# Altium schematic symbol library M1-Test-Board.SCHLIB: 52 symbols (part 1 of 2)
Pins are listed as number, name and electrical type; pins without a type are passive.

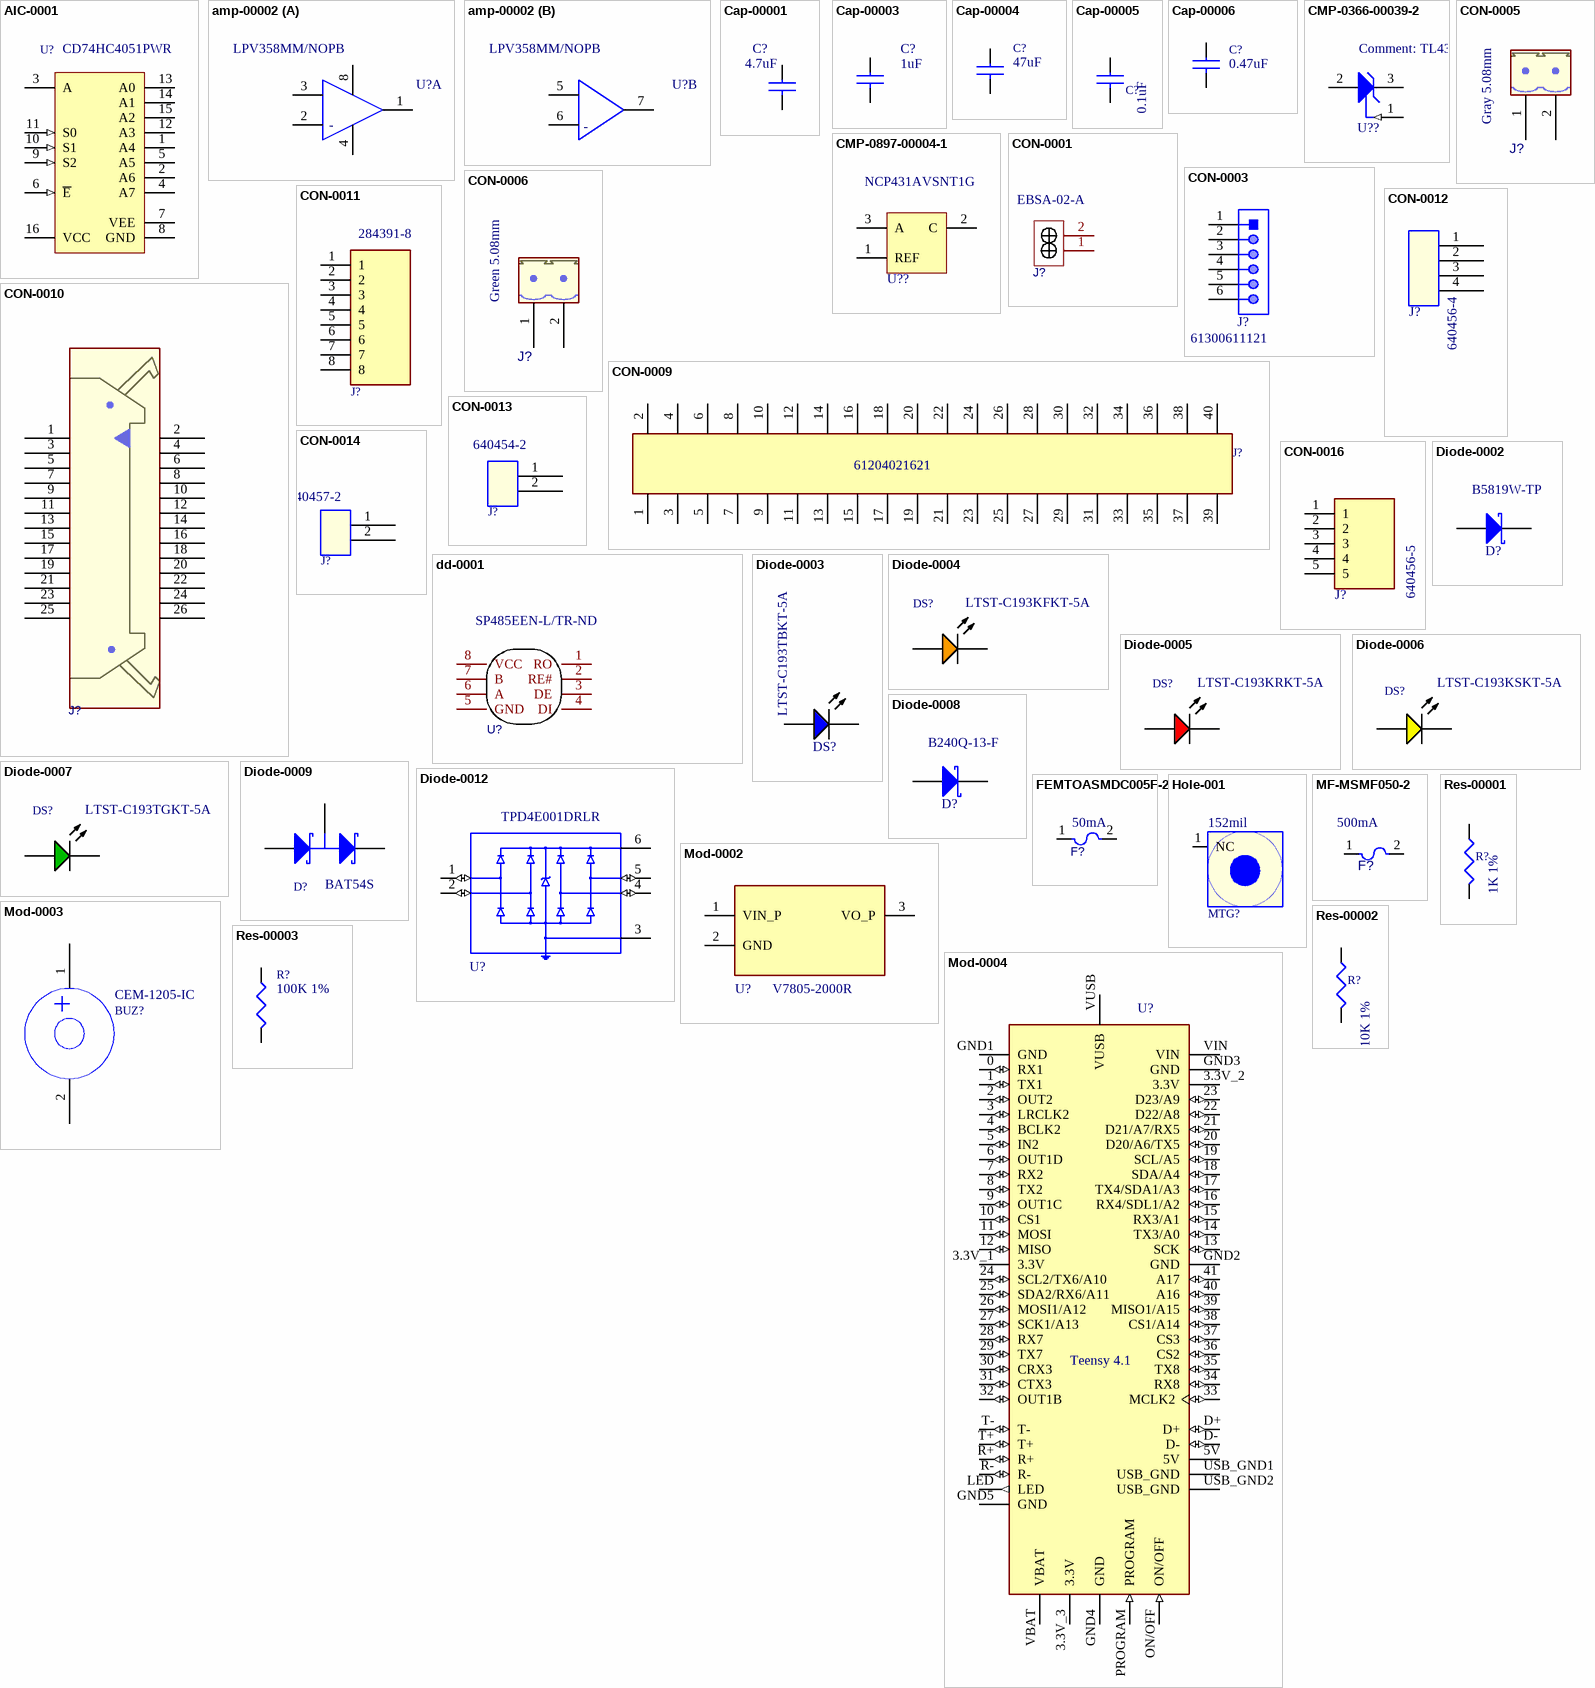
[diagram p0: symbols AIC-0001 to Res-00003]

## AIC-0001
designator U?, comment CD74HC4051PWR
5-V, 8: 1, 1-channel analog mutliplexer 16-TS; Manufacturer: Texas Instruments; Output Type: CMOS; VCC(Max)(V): 6; Ron(Typ)(Ohms): 45; Rating: Catalog; VCC(Min)(V): 2; Ron(Max)(Ohms): 130; Configuration: 1 X 1：8 MUX; Crosstalk: Yes; Bandwidth(Max)(MHz): 180; Bandwidth: 180MHz; Propagation Delay: 60ns; Number of Outputs: 1; Max Supply Voltage: 6V; Min Supply Voltage: 2V; Number of Inputs: 8; Min Dual Supply Voltage: 1V; Max Dual Supply Voltage: 5V; Dual Supply Voltage: 3V; Logic Function: Multiplexer,Demultiplexer; On-State Resistance: 130R; Turn-On Delay Time: 225ns; Supply Type: Single,Dual; Nominal Supply Current: 16uA; Polarity: Non-Inverting; Low Level Output Current: 25mA; PackageVersion: http://www.ti.com/lit/ml/mpds178g/mpds178g.pdf; Generic Part Number: CD74HC4051; PackageReference: D0016A; Operating Temperature Range(C): -55 to 125; DatasheetVersion: SCHS122J; Code_JEDEC: MS-012 variation AC; Manufacturer Part Number: CD74HC4051PWR; Part Name: AIC-0001; LCSC Part Number: C352826; Supplier 1: Newark; Supplier Part Number 1: 29AH3620; RoHS: Yes; Category: Decoders and Multiplexers; Stock 1: 12645; Pricing 1: 1=0.33420, 10=0.26780, 30=0.23940, 100=0.2039; Mount: Surface Mount; Case/Package: TSSOP; Number of Pins: 16; Weight: 0.002183oz; Contact Plating: Gold; Min Operating Temperature: -55°C; Max Operating Temperature: 125°C; Package Quantity: 1; Packaging: Tape and Reel; Number of Channels: 1; Turn-Off Delay Time: 225ns; Number of Bits: 8; Series: 74HC; Number of Circuits: 1; High Level Output Current: 25mA; Number of Switches: 1; Max Output Current: 25mA; Termination: SMD/SMT; Supply Current: 16uA; Length: 5mm; Width: 4.4mm; Height: 1.15mm; Radiation Hardening: No; Lead Free: Lead Free; RoHS Compliant: Yes; REACH SVHC: No SVHC; ComponentLink1URL: https://datasheet.ciiva.com/15127/getdatashee; ComponentLink1Description: https://datasheet.ciiva.com/15127/getdatashee; ComponentLink2URL: https://datasheet.ciiva.com/27092/1326571-270; ComponentLink2Description: https://datasheet.ciiva.com/27092/1326571-270; ComponentLink3URL: https://datasheet.ciiva.com/1514/1789854-1514; ComponentLink3Description: https://datasheet.ciiva.com/1514/1789854-1514; ComponentLink4URL: https://datasheet.ciiva.com/1171/1633734-1171; ComponentLink4Description: https://datasheet.ciiva.com/1171/1633734-1171; ComponentLink5URL: https://datasheet.ciiva.com/1171/1633734-1171; ComponentLink5Description: https://datasheet.ciiva.com/1171/1633734-1171; ComponentLink6URL: https://datasheet.ciiva.com/2978/cd74hct4053-; ComponentLink6Description: https://datasheet.ciiva.com/2978/cd74hct4053-; ComponentLink7URL: https://datasheet.ciiva.com/46391/1840262-463; ComponentLink7Description: https://datasheet.ciiva.com/46391/1840262-463
footprint D0016A_N (SOIC, 16-Leads, Body 10x4mm, Pitch 1.27mm, IPC Medium Density)
footprint D0016A_L (SOIC, 16-Leads, Body 10x4mm, Pitch 1.27mm, IPC High Density)
footprint D0016A_M (SOIC, 16-Leads, Body 10x4mm, Pitch 1.27mm, IPC Low Density)
footprint 16-TSSOP-4.4mm
pins: 1 A4, 2 A6, 3 A, 4 A7, 5 A5, 6 ~{E} (in), 7 VEE (power), 8 GND (power), 9 S2 (in), 10 S1 (in), 11 S0 (in), 12 A3, 13 A0, 14 A1, 15 A2, 16 VCC (power)

## amp-00002
designator U?, comment LPV358MM/NOPB
Op Amp Dual Micropower Amplifier R-R O/P 5V 8; Manufacturer: TI National Semiconductor; Manufacturer: Texas Instruments; Manufacturer Part Number: LM358DR; Part Name: amp-00002; Output Current: 2mA; Min Dual Supply Voltage: 1.5V; Input Offset Voltage (Vos): 1.5mV; Power Supply Rejection Ratio (PSRR): 50dB; Unity Gain Bandwidth Product: 152kHz; Number of Channels: 2; Min Supply Voltage: 2.7V; Max Dual Supply Voltage: 16V; Output Current per Channel: 16mA; Dual Supply Voltage: 9V; Nominal Supply Current: 15uA; Slew Rate: 0.1V/µs; Input Bias Current: 2nA; Voltage Gain: 100dB; Operating Supply Voltage: 3V; Amplifier Type: GENERAL PURPOSE; Max Frequency: 1kHz; REACH SVHC: No SVHC; Package Quantity: 1000; Width: 3.1mm; Max Operating Temperature: 85°C; Min Operating Temperature: -40°C; Mount: Surface Mount; Length: 3.1mm; Radiation Hardening: No; Case/Package: VSSOP; Lead Free: Lead Free; Number of Elements: 2; Packaging: Tape and Reel; Number of Circuits: 2; Max Supply Voltage: 5V; Bandwidth: 152kHz; Gain Bandwidth Product: 152kHz; Number of Pins: 8; Number of Amplifiers: 2; Height: 0.95mm; Common Mode Rejection Ratio: 50dB; Contact Plating: Tin; Operating Supply Current: 15uA; Manufacturer Part Number: LPV358MM/NOPB; LCSC Part Number: C133971; Supplier 1: Digi-Key; Supplier Part Number 1: LPV358MM/NOPBCT-ND; RoHS: Yes; Category: Amplifiers - Op Amps, Buffer, Instrumentation; Stock 1: 8722; Pricing 1: 1=1.43000, 10=1.27600, 25=1.21080, 100=0.9947; Technology: BICMOS; RoHS Compliant: Yes; ComponentLink1URL: https://datasheet.ciiva.com/6627/lpv321-n-662; ComponentLink1Description: https://datasheet.ciiva.com/6627/lpv321-n-662; ComponentLink2URL: https://datasheet.ciiva.com/6627/lpv321-n-662; ComponentLink2Description: https://datasheet.ciiva.com/6627/lpv321-n-662; ComponentLink3URL: https://datasheet.ciiva.com/6627/lpv321-n-662; ComponentLink3Description: https://datasheet.ciiva.com/6627/lpv321-n-662
footprint FP-D0008A-MFG
footprint FP-D0008A-IPC_A
footprint FP-D0008A-IPC_B
footprint FP-D0008A-IPC_C
footprint MUA08A
part A pins: 1 1OUT, 2 IN1-, 3 IN1+, 4 V- (power), 8 V+ (power)
part B pins: 5 IN2+, 6 IN2-, 7 2OUT
part A text: -
part B text: -

## Cap-00001
designator C?, comment 4.7uF
CAP CER 4.7UF 16V X5R 0603; Part Name: Cap-00001; Manufacturer: Samsung; Manufacturer Part Number: CL10A475KO8NNNC; Material: Ceramic; Tolerance: 10%; Supplier 1: Digi-Key; Supplier Part Number 1: 1276-1784-1-ND; RoHS: Yes; Category: Ceramic Capacitors; Stock 1: 1593998; Pricing 1: 1=0.13000, 10=0.09100, 50=0.05180, 100=0.0429; Mount: Surface Mount; Case/Package: 0603; Case Code (Metric): 1608; Case Code (Imperial): 0603; Contact Plating: Tin; Min Operating Temperature: -55°C; Max Operating Temperature: 85°C; Packaging: Tape and Reel; Package Quantity: 1; Capacitance: 4.7uF; Voltage Rating: 16V; Dielectric: X5R; Voltage: 16V; Series: CL; Construction: Flat; Length: 1.6mm; Width: 0.031inch; Height: 0.8mm; Thickness: 0.035inch; Depth: 0.8mm; Radiation Hardening: No; RoHS Compliant: Yes; ComponentLink1URL: https://datasheet.ciiva.com/25795/cl10a475ko8; ComponentLink1Description: https://datasheet.ciiva.com/25795/cl10a475ko8; ComponentLink2URL: https://datasheet.ciiva.com/26838/getdatashee; ComponentLink2Description: https://datasheet.ciiva.com/26838/getdatashee; ComponentLink3URL: https://datasheet.ciiva.com/29198/457663-da-0; ComponentLink3Description: https://datasheet.ciiva.com/29198/457663-da-0; LCSC Part Number: C19666; Dielectric Material: Ceramic; Number of Pins: 2
footprint CC0603IPC
footprint C0603
pins: 1, 2

## Cap-00003
designator C?, comment 1uF
CAP CER 1UF 10V Y5V 0402; Part Name: Cap-00003; Manufacturer: KEMET; Manufacturer Part Number: C0402C105Z8VAC7867; Tolerance: 80%; Dielectric Material: Ceramic; Supplier 1: Digi-Key; Supplier Part Number 1: 399-14873-1-ND; RoHS: Yes; Category: Ceramic Capacitors; Stock 1: 9702; Pricing 1: 1=0.28000, 10=0.18900, 50=0.12580, 100=0.1070; Mount: Surface Mount; Case/Package: 0402; Case Code (Metric): 1005; Case Code (Imperial): 0402; Min Operating Temperature: -30°C; Max Operating Temperature: 85°C; Packaging: Cut Tape; Capacitance: 1uF; Voltage Rating: 10V; ComponentLink1URL: https://api.kemet.com/component-edge/download; ComponentLink1Description: https://api.kemet.com/component-edge/download; LCSC Part Number: C52923; Number of Pins: 2
footprint C0402
pins: 1, 2

## Cap-00004
designator C?, comment 47uF
CAP CER 47UF 16V X5R 1210; Part Name: Cap-00004; Manufacturer: Murata; Manufacturer Part Number: GRM32ER61C476ME15L; Tolerance: 20%; Dielectric Material: Ceramic; Supplier 1: Digi-Key; Supplier Part Number 1: 490-3888-1-ND; RoHS: Yes; Category: Ceramic Capacitors; Stock 1: 238447; Pricing 1: 1=0.73000, 10=0.53900, 50=0.43120, 100=0.3697; Mount: Surface Mount; Case/Package: 1210; Case Code (Metric): 3225; Case Code (Imperial): 1210; Min Operating Temperature: -55°C; Max Operating Temperature: 85°C; Packaging: Tape and Reel; Package Quantity: 1000; Capacitance: 47uF; Voltage Rating: 16V; Dielectric: X5R; Voltage: 16V; Series: GRM; Length: 3.2mm; Width: 0.098inch; Height: 2.5mm; Thickness: 0.106inch; Depth: 2.5mm; RoHS Compliant: Yes; ComponentLink1URL: https://datasheet.ciiva.com/141/product-14197; ComponentLink1Description: https://datasheet.ciiva.com/141/product-14197; ComponentLink2URL: https://datasheet.ciiva.com/14116/grm32er61c4; ComponentLink2Description: https://datasheet.ciiva.com/14116/grm32er61c4; ComponentLink3URL: https://datasheet.ciiva.com/7719/415303-77191; ComponentLink3Description: https://datasheet.ciiva.com/7719/415303-77191; LCSC Part Number: C77101; Number of Pins: 2; Termination: SMD/SMT; REACH SVHC: No SVHC; Lead Free: Lead Free; ComponentLink4URL: https://datasheet.ciiva.com/141/partnumbering; ComponentLink4Description: https://datasheet.ciiva.com/141/partnumbering; ComponentLink5URL: https://datasheet.ciiva.com/141/partnumbering; ComponentLink5Description: https://datasheet.ciiva.com/141/partnumbering; ComponentLink6URL: https://datasheet.ciiva.com/16343/c02e-163436; ComponentLink6Description: https://datasheet.ciiva.com/16343/c02e-163436; Voltage Rating (DC): 16V
footprint C1210
pins: 1, 2

## Cap-00005
designator C?, comment 0.1uF
Cap Ceramic 0.1uF 50V X7R 10% Pad SMD 0402 125C Automotive T/R; Part Name: Cap-00005; Manufacturer: Murata; Manufacturer Part Number: GRT155R71H104KE01D; Supplier 1: Digi-Key; Supplier Part Number 1: 490-GRT155R71H104KE01DCT-ND; RoHS: Yes; Category: Ceramic Capacitors; Stock 1: 179948; Pricing 1: 1=0.10000, 10=0.04700, 50=0.02580, 100=0.0211; Mount: Surface Mount; Case/Package: 0402; Case Code (Metric): 1005; Case Code (Imperial): 0402; RoHS Compliant: Yes; LCSC Part Number: C307331; Number of Pins: 2; Dielectric Material: Ceramic; Voltage Rating (DC): 50V
footprint C0402
pins: 1, 2

## Cap-00006
designator C?, comment 0.47uF
CAP CER 0.47UF 16V Y5V 0402; Part Name: Cap-00006; Manufacturer: Yageo; Manufacturer Part Number: CC0402ZRY5V7BB474; Tolerance: 80%; Capacitance: 470nF; Dielectric Material: Ceramic; Supplier 1: Digi-Key; Supplier Part Number 1: 311-1735-1-ND; RoHS: Yes; Category: Ceramic Capacitors; Stock 1: 154263; Pricing 1: 1=0.10000, 10=0.07700, 50=0.04180, 100=0.0342; Mount: Surface Mount; Case/Package: 0402; Case Code (Metric): 1005; Case Code (Imperial): 0402; Min Operating Temperature: -30°C; Max Operating Temperature: 85°C; Packaging: Tape and Reel; Voltage Rating: 16V; Dielectric: Y5V; Series: CC; Length: 1mm; Width: 0.02inch; Thickness: 0.022inch; Depth: 0.5mm; Radiation Hardening: No; RoHS Compliant: Yes; ComponentLink1URL: https://datasheet.ciiva.com/26862/getdatashee; ComponentLink1Description: https://datasheet.ciiva.com/26862/getdatashee; LCSC Part Number: C527993; Termination: SMD/SMT; Lead Free: Lead Free; Halogen Free: Halogen Free; Voltage Rating (DC): 16V
footprint C0402
pins: 1, 2

## CMP-0366-00039-2
designator U??, comment TL431ACLP
Adjustable Precision Shunt Regulator, 34 ppm / degC, 100 mA, 0 to 70 degC, 3-pin TO-92 (LP), Pb-Free (RoHS); Manufacturer: Texas Instruments; VO Adj(Max)(V): 36; Initial Accuracy @ 25/deg C(%): 1; SubFamily: Shunt Voltage Reference; Temp Coeff(Typ)(ppm/ degree C): 34; VO Adj(Min)(V): 2.495; Rating: Catalog; Min Iz for Regulation(uA): 600; Temp Coeff(Max)(ppm/ degree C): 92; Iout/Iz(Max)(mA): 100; Code_JEDEC: TO-226; PackageReference: LP0003A; ComponentLink1Description: Manufacturer URL; ComponentLink2URL: http://www.ti.com/general/docs/lit/getliterature.tsp?genericPartNumber=TL431A&fileType=pdf; DatasheetVersion: SLVS543M; ComponentLink3Description: Package Specification; Mounting Technology: Through Hole; PackageVersion: 4040001-2/C; ComponentLink2Description: Datasheet; PartNumber: TL431ACLP; ComponentLink3URL: http://www.ti.com/litv/pdf/msot002a; PackageDescription: Plastic Cylindrical Package, Formed Lead Option (TO-92); ComponentLink1URL: http://www.ti.com/; Eco-Plan: Pb-Free (RoHS); Manufacturer Part Number: TL431ACLP
footprint LP0003A (TO, Flat Index; 3 In-Line, Formed Axial Leads; Body Dia. 4.8mm; Leads 0.56 x 0.41 mm (max))
pins: 1 REF (in), 2 ANODE, 3 CATHODE

## CMP-0897-00004-1
designator U??, comment NCP431AVSNT1G
Programmable Precision Reference, Low Cathode Current, Programmable, Shunt Regulator, 2.5 to 36 V, 0.04 to 100 mA, -40 to 125 degC, 3-Pin SOT23 (318), Pb-free, Tape and Reel; Manufacturer: ON Semiconductor; Tolerance: 1%; V(BR) Typ: 2.5 V; Tyep: Adjustable; VF Max: 36 V; ComponentLink3Description: Package Specification; PackageVersion: Rev. 08AP; Operating Current Range: 0.04 to 100 mA; Packing: Tape and Reel; ComponentLink2Description: Datasheet; Mounting Technology: Surface Mount; PackageDescription: SOT23, 3-Leads, Body 2.92 x 1.3 mm, Pitch 0.95 mm; ComponentLink1URL: http://www.onsemi.com/; PartNumber: NCP431AVSNT1G; ComponentLink1Description: Manufacturer URL; Operating Temperature Range: -40 to 125 degC; DatasheetVersion: Rev. 6; PackageReference: SOT-23-318AP-08; ComponentLink3URL: http://www.onsemi.com/pub_link/Collateral/318-08.PDF; ComponentLink2URL: http://www.onsemi.com/pub_link/Collateral/NCP431-D.PDF; Manufacturer Part Number: NCP431AVSNT1G
footprint ONSC-SOT-23-3-318AP-08_V (SOT23, 3-Leads, Body 2.92x1.3mm, Pitch 0.95mm)
pins: 1 REF, 2 C, 3 A

## CON-0001
designator J?, comment EBSA-02-A
Conn Header Right angle 3.5 pitch 2P; Manufacturer: Adam Equipment; Connector Type: Male Pin; Number of Positions: 6; Pitch: 0.1inch; Part Name: CON-0001; Supplier 1: Digi-Key; Supplier Part Number 1: 2057-EBSA-02-A-ND; Manufacturer Part Number: EBSA-02-A; RoHS: Yes; Stock 1: 2090; Pricing 1: 1=0.58000, 10=0.31600, 25=0.23600, 50=0.21040; LCSC Part Number: C409115; Category: Connectors; Color: Black; ComponentLink1Description: https://datasheet.ciiva.com/741/xrxczzzsxxn-r; ComponentLink1URL: https://datasheet.ciiva.com/741/xrxczzzsxxn-r; Contact Mating Length: 0.318inch; Contact Plating: Gold; Contact Type: Male Pin; Mount: Through Hole; Number of Rows: 1; Package Quantity: 1; Packaging: Bulk; Pricing 2: 1=0.21000, 10=0.19800, 25=0.16920, 50=0.14820; RoHS Compliant: Yes; Series: -; Stock 2: 1241; Supplier 2: Digi-Key; Supplier Part Number 2: S1211EC-06-ND; Termination: Solder
footprint WURTH691321100002-2PIN
footprint CONN-TH_2P-P3.50_JL15EDGRC-35002G01
pins: 1, 2

## CON-0003
designator J?, comment 61300611121
CONN HEADER 6 POS 2.54; Manufacturer: Wurth Electronics; Part Name: CON-0003; Supplier 1: Digi-Key; Supplier Part Number 1: 732-5319-ND; Manufacturer Part Number: 61300611121; RoHS: Yes; Stock 1: 57047; Pricing 1: 1=0.35000, 10=0.29800, 25=0.24720, 50=0.20700; LCSC Part Number: C2833331; Category: Headers and Wire Housings; Mount: Through Hole; Color: Black; Contact Material: Copper Alloy,Copper; Contact Plating: Gold; Housing Material: PBT; Min Operating Temperature: -40°C; Max Operating Temperature: 125°C; Number of Rows: 1
footprint 61300611121
pins: 1, 2, 3, 4, 5, 6

## CON-0005
designator J?, comment Gray 5.08mm
Pluggable Term Blocks BCH-508HS- 2 GR 5.08; Manufacturer: Phoenix Contact; Manufacturer Part Number: 5433668; PKG: TB508HDR02_RTA; ATTR: HEADER TERM BLK 5.08MM 2POS RTA GREEN; Current Rating: 12A; Voltage Rating: 320V; Number of Positions Per Level: 2; Number of Levels: 1; Part Name: CON-0005; Supplier 1: Digi-Key; Supplier Part Number 1: 277-11218-ND; RoHS: Yes; Stock 1: 100; Pricing 1: 1=0.69000, 10=0.66000, 50=0.64200, 100=0.6000; LCSC Part Number: N/A; Category: Terminal Blocks; Mount: Through Hole; Color: Grey; Contact Plating: Tin; Packaging: Bulk; Termination: Solder; Package Quantity: 100
footprint Conn_5442002
pins: 1, 2

## CON-0006
designator J?, comment Green 5.08mm
Pluggable Term Blocks BCH-508HS- 2 GN 5.08; Manufacturer: Phoenix Contact; Manufacturer Part Number: 5442002; ATTR: HEADER TERM BLK 5.08MM 2POS RTA GRAY; PKG: TB508HDR02_RTA; Connector Type: Screw; Number of Positions: 3; Pitch: 3.5mm; Current Rating: 13.5A; Voltage Rating: 200V; Gender: Male; Number of Levels: 1; Voltage: 300V; Approvals: UL,CSA,cULus,CB,EAC; Stripping Length: 5mm; Wire/Cable Gauge: 30AWG; Wire Gauge (Min): 16AWG; Part Name: CON-0006; Supplier 1: Digi-Key; Supplier Part Number 1: 277-11311-ND; RoHS: Yes; Stock 1: 219; Pricing 1: 1=0.68000, 10=0.64900, 50=0.63140, 100=0.5900; LCSC Part Number: N/A; Category: Terminal Blocks; Mount: Through Hole; Contact Material: Tin; Packaging: Bulk; Number of Rows: 1; Termination: Screw; ComponentLink1URL: https://datasheet.ciiva.com/16046/1751251-160; ComponentLink1Description: https://datasheet.ciiva.com/16046/1751251-160; Package Quantity: 50; Series: COMBICON MKDS; RoHS Compliant: Yes; Number of Contacts: 3; REACH SVHC: Unknown; Lead Free: Lead Free; ComponentLink2URL: https://datasheet.ciiva.com/6745/1751251-6745; ComponentLink2Description: https://datasheet.ciiva.com/6745/1751251-6745; ComponentLink3URL: https://datasheet.ciiva.com/29226/774163-da-0; ComponentLink3Description: https://datasheet.ciiva.com/29226/774163-da-0; Flammability Rating: UL94 V-0; Number of Positions Per Level: 3; Max Current Rating: 13.5A; Orientation: Straight; Length: 7.3mm; Current: 13.5A; Housing Color: Green; Number of Poles: 3; Height: 11mm; Insulation Material: Nylon; Material: Polyamide; Number of Circuits: 3; Weight: 0.056791oz; Width: 12mm; Wire Gauge (Max): 30AWG
footprint Conn_5433668
pins: 1, 2

## CON-0009
designator J?, comment 61204021621
Male Box Header WR-BHD, THT, Vertical, pitch; Manufacturer: Wurth Electronics; Connector Type: Male Pin; Number of Positions: 40; Pitch: 0.1inch; Part Name: CON-0009; Supplier 1: Digi-Key; Supplier Part Number 1: 732-5401-ND; Manufacturer Part Number: 61204021621; RoHS: Yes; Stock 1: 3521; Pricing 1: 1=1.21000, 10=1.16000, 80=1.02000, 160=0.8800; LCSC Part Number: C221057; Category: Headers and Wire Housings; Mount: Through Hole; Color: Black; Contact Material: Copper; Contact Plating: Gold; Packaging: Tray; Number of Rows: 2; Termination: Solder; Number of Contacts: 40; Gender: Male
footprint 61204021621
footprint IDC-TH_Z-231011040106
pins: 1, 2, 3, 4, 5, 6, 7, 8, 9, 10, 11, 12, 13, 14, 15, 16, 17, 18, 19, 20, 21, 22, 23, 24, 25, 26, 27, 28, 29, 30, 31, 32, 33, 34, 35, 36, 37, 38, 39, 40

## CON-0010
designator J?, comment N3429-5202RB
3000 Series; 2.54mm Pitch 26 Way 2 Row Right; Manufacturer: 3M; ATTR: CONN HEADER LATCH/EJEC  RTA DUAL ROW 26POS; PKG: 2M54_13x2_TH_LATCH; Connector Type: Male Pin; Number of Positions: 26; Current Rating: 1A; Voltage Rating: 300V; Gender: Male; Number of Positions Per Level: 8; Number of Levels: 1; Max Current Rating: 2A; Current: 12A; Shrouded: Yes (With); Tail Length: 3.5mm; Wire Gauge (Max): 30AWG; Row Spacing: 0.1inch; Closed End: No (Without); Plating: Brass; Thread Size: M2; Part Name: CON-0010; Supplier 1: Digi-Key; Supplier Part Number 1: MHR26S-ND; Manufacturer Part Number: N3429-5202RB; RoHS: Yes; Stock 1: 185; Pricing 1: 1=5.34000, 10=4.85100, 100=4.27430, 500=3.633; LCSC Part Number: N/A; Category: Headers and Wire Housings; Mount: Through Hole; Color: Black; Contact Material: Copper Alloy,Copper; Contact Plating: Gold; Housing Material: Polychlorinated; Min Operating Temperature: -55°C; Max Operating Temperature: 105°C; Packaging: Bulk; Number of Rows: 2; Termination: Solder; ComponentLink1URL: https://datasheet.ciiva.com/19461/1578947-194; ComponentLink1Description: https://datasheet.ciiva.com/19461/1578947-194; Package Quantity: 250; Series: 3000; Contact Type: Male Pin; Pitch: 2.54mm; Contact Mating Length: 0.24inch; RoHS Compliant: Yes; Number of Contacts: 26; REACH SVHC: No SVHC; Lead Free: Lead Free; ComponentLink2URL: https://datasheet.ciiva.com/11754/0900766b807; ComponentLink2Description: https://datasheet.ciiva.com/11754/0900766b807; ComponentLink3URL: https://datasheet.ciiva.com/719/ts0772-719341; ComponentLink3Description: https://datasheet.ciiva.com/719/ts0772-719341; ComponentLink4URL: https://datasheet.ciiva.com/8051/ts0772-80510; ComponentLink4Description: https://datasheet.ciiva.com/8051/ts0772-80510; Flammability Rating: UL94 V-0; Orientation: Right Angle; Length: 52.45mm; Depth: 24.6mm; Voltage: 300V; ComponentLink5URL: https://datasheet.ciiva.com/30156/eng-cs-1308; ComponentLink5Description: https://datasheet.ciiva.com/30156/eng-cs-1308; ComponentLink6URL: https://datasheet.ciiva.com/3141/eng-cs-13083; ComponentLink6Description: https://datasheet.ciiva.com/3141/eng-cs-13083; Housing Color: Black; Fastening Type: Latch; Max Voltage Rating (AC): 300V; Height: 8.6mm; Radiation Hardening: No; ELV: Compliant; ComponentLink7URL: https://datasheet.ciiva.com/823/eng-cd-284391; ComponentLink7Description: https://datasheet.ciiva.com/823/eng-cd-284391; Number of Circuits: 8; Wire Gauge (Min): 30AWG; Interlock: Yes (With); Max Supply Voltage (AC): 300V; Screw Flange: No (Without); Screwless Terminal Block: No (Without); Side Stackable: Yes (With)
footprint CONN_N3429-5202RB
pins: 1, 2, 3, 4, 5, 6, 7, 8, 9, 10, 11, 12, 13, 14, 15, 16, 17, 18, 19, 20, 21, 22, 23, 24, 25, 26

## CON-0011
designator J?, comment 284391-8
Conn Terminal Block F 8 POS 3.5mm Solder ST T; MF: TE Connectivity; MP: 284391-8; SnapEDA_Link: https://www.snapeda.com/parts/284391-8/TE%20Connectivity%20AMP%20Connectors/view-part/2375722/?ref=snap; EU_RoHS_Compliance: Compliant with Exemptions; Package: None; Digi-Key_Purchase_URL: https://www.digikey.com.au/product-detail/en/te-connectivity-amp-connectors/284391-8/A98163-ND/1827025?utm_source=snapeda&utm_medium=aggregator&utm_campaign=symbol; Value: *; TE_purchase_URL: https://www.te.com/usa-en/product-284391-8.html?te_bu=Cor&te_type=disp&te_campaign=seda_glo_cor-seda-global-disp-prtnr-fy19-seda-model-bom-cta_sma-317_1&elqCampaignId=32493; Digi-Key_Part_Number: A98163-ND; Part Name: CON-0011; Supplier 1: Mouser; Supplier Part Number 1: 571-284391-8; Manufacturer: TE Connectivity; Manufacturer Part Number: 284391-8; RoHS: Yes; Stock 1: 530; Pricing 1: 1=5.54000, 10=3.52000, 50=3.52000, 100=3.4300; LCSC Part Number: N/A; Category: Terminal Blocks; Mount: Through Hole; Color: Green; Contact Material: Brass; Contact Plating: Tin
footprint TE_284391-8
pins: 1, 2, 3, 4, 5, 6, 7, 8

## CON-0012
designator J?, comment 640456-4
Header, Friction Lock; MTA-100; 4; 250 VAC; P; Manufacturer: TE Connectivity; Connector Type: Connector,Pin,Plug,Header; Number of Positions: 4; Pitch: 2.54mm; Current Rating: 5A; Voltage Rating: 250V; Gender: Male; Contact Resistance: 6mR; Backwall/Post Interruptions: No (Without); Connector System: Wire-to-Board; PCB Mount Retention: Without; PCB Mounting Orientation: Vertical; Contact Style: Straight; Circuit Application: Signal; Mating Connector Lock: Yes (With); Plating Thickness: 3.81um; PCB Thickness: 0.063inch; Tail Length: 0.14inch; Contact Post Length: 3.56mm; Approvals: CSA; Underplate Material: Nickel; Part Name: CON-0012; Supplier 1: Digi-Key; Supplier Part Number 1: A1922-ND; Manufacturer Part Number: 640456-4; RoHS: Yes; Stock 1: 220089; Pricing 1: 1=0.28000, 10=0.23900, 100=0.18620, 500=0.159; LCSC Part Number: C305804; Category: Connectors; Mount: Through Hole; Color: Natural,Beige,White; Contact Material: Copper Alloy; Contact Plating: Tin; Housing Material: Polyester; Min Operating Temperature: -67°C; Max Operating Temperature: 221°C; Packaging: Bulk; Number of Rows: 1; Termination: Solder; ComponentLink1URL: https://datasheet.ciiva.com/36859/38054-36859; ComponentLink1Description: https://datasheet.ciiva.com/36859/38054-36859; Package Quantity: 5000; Series: MTA-100; Contact Type: Male Pin; Contact Mating Length: 7.49mm; RoHS Compliant: Yes; Contact Gender: Male; Number of Contacts: 4; REACH SVHC: No SVHC; Lead Free: Lead Free; ComponentLink2URL: https://datasheet.ciiva.com/16286/eng-ds-8205; ComponentLink2Description: https://datasheet.ciiva.com/16286/eng-ds-8205; ComponentLink3URL: https://datasheet.ciiva.com/11746/0900766b800; ComponentLink3Description: https://datasheet.ciiva.com/11746/0900766b800; ComponentLink4URL: https://datasheet.ciiva.com/25618/0900766b80e; ComponentLink4Description: https://datasheet.ciiva.com/25618/0900766b80e; Flammability Rating: UL94 V-0; Orientation: Straight; Length: 12.7mm; Depth: 5.72mm; ComponentLink5URL: https://datasheet.ciiva.com/19462/613958-1946; ComponentLink5Description: https://datasheet.ciiva.com/19462/613958-1946; ComponentLink6URL: https://datasheet.ciiva.com/709/eng-cd-640456; ComponentLink6Description: https://datasheet.ciiva.com/709/eng-cd-640456; Housing Color: Natural; Contact Shape: Square; Fastening Type: Friction; Max Voltage Rating (AC): 250V; Voltage Rating (AC): 250V; Contact Retention: No (Without); Mating Alignment: No (Without); Mating Retention: No (Without); PCB Mount Alignment: No (Without); Sealable: No (Without); Strain Relief: No (Without); Shrouded: No (Without); Contact Current Rating: 5A; Panel Mount Retention: No (Without); Mounting Ears: No (Without); Number of Poles: 4; Working Voltage: 250V; Height: 7.87mm; Lead Pitch: 2.54mm; Radiation Hardening: No; ELV: Compliant; ComponentLink7URL: https://datasheet.ciiva.com/14637/70083644-14; ComponentLink7Description: https://datasheet.ciiva.com/14637/70083644-14; ComponentLink8URL: https://datasheet.ciiva.com/14156/mta-cst-100; ComponentLink8Description: https://datasheet.ciiva.com/14156/mta-cst-100; ComponentLink9URL: https://datasheet.ciiva.com/16656/eng-ds-8205; ComponentLink9Description: https://datasheet.ciiva.com/16656/eng-ds-8205; ComponentLink10URL: https://datasheet.ciiva.com/11746/0900766b806; ComponentLink10Description: https://datasheet.ciiva.com/11746/0900766b806; ComponentLink11URL: https://datasheet.ciiva.com/15175/getdatashee; ComponentLink11Description: https://datasheet.ciiva.com/15175/getdatashee; ComponentLink12URL: https://datasheet.ciiva.com/16394/eng-ds-8205; ComponentLink12Description: https://datasheet.ciiva.com/16394/eng-ds-8205; ComponentLink13URL: https://datasheet.ciiva.com/6045/1650873-6045; ComponentLink13Description: https://datasheet.ciiva.com/6045/1650873-6045; Weight: 0.01411oz; ComponentLink14URL: https://datasheet.ciiva.com/709/eng-cd-640454; ComponentLink14Description: https://datasheet.ciiva.com/709/eng-cd-640454; ComponentLink15URL: https://datasheet.ciiva.com/7703/eng-ds-82056; ComponentLink15Description: https://datasheet.ciiva.com/7703/eng-ds-82056; ComponentLink16URL: https://datasheet.ciiva.com/3118/eng-ds-82056; ComponentLink16Description: https://datasheet.ciiva.com/3118/eng-ds-82056
footprint CON$5C$4P$5C$100L
pins: 1, 2, 3, 4

## CON-0013
designator J?, comment 640454-2
Header, Polarized; MTA-100; 2; 250 VAC; Polye; Manufacturer: TE Connectivity; Parameter 1: C86502; Part Name: CON-0013; Supplier 1: Digi-Key; Supplier Part Number 1: A19423-ND; Manufacturer Part Number: 640454-2; RoHS: Yes; Stock 1: 22525; Pricing 1: 1=0.16000, 10=0.12600, 100=0.09280, 500=0.076; LCSC Part Number: C86501; Category: Connectors; Mount: Through Hole; Color: Natural,White,Beige; Contact Material: Copper Alloy; Contact Plating: Tin; Housing Material: Polyester; Housing Color: Natural; Contact Shape: Square
footprint CON$5C$2P$5C$100LM
pins: 1, 2

## CON-0014
designator J?, comment 640457-2
MTA-100 HEADER  Friction Lock R/A 2POS 2.54MM; Manufacturer: AMP - TE CONNECTIVITY; Parameter 1: C86502; Part Name: CON-0014; Supplier 1: Digi-Key; Supplier Part Number 1: A1926-ND; Manufacturer Part Number: 640457-2; RoHS: No; LCSC Part Number: C86507; ComponentLink1URL: http://www.farnell.com/datasheets/2007196.pdf; ComponentLink1Description: http://www.farnell.com/datasheets/2007196.pdf; ComponentLink2URL: http://www.farnell.com/datasheets/2007196.pdf; ComponentLink2Description: http://www.farnell.com/datasheets/2007196.pdf; ComponentLink3URL: http://www.farnell.com/datasheets/2007196.pdf; ComponentLink3Description: http://www.farnell.com/datasheets/2007196.pdf
footprint TE_640457-2
pins: 1, 2

## CON-0016
designator J?, comment 640456-5
Connector 250V AC/DC 5A 5P 1 Row PCB - Vertic; Manufacturer: TE Connectivity; Connector Type: Connector,Pin,Plug,Header; Number of Positions: 5; Pitch: 2.54mm; Gender: Male; Contact Resistance: 6mR; Backwall/Post Interruptions: No (Without); Connector System: Wire-to-Board; PCB Mount Retention: Without; PCB Mounting Orientation: Vertical; Contact Style: Straight; Circuit Application: Signal; Mating Connector Lock: Yes (With); Plating Thickness: 3.81um; PCB Thickness: 0.063inch; Tail Length: 0.14inch; Contact Post Length: 3.56mm; Approvals: CSA; Part Name: CON-0016; Supplier 1: Digi-Key; Supplier Part Number 1: A19471-ND; Manufacturer Part Number: 640456-5; RoHS: Yes; Stock 1: 35885; Pricing 1: 1=0.40000, 10=0.34200, 100=0.26590, 500=0.227; LCSC Part Number: C86505; Category: Connectors; Mount: Through Hole; Color: Natural,Beige,White; Contact Material: Copper Alloy; Contact Plating: Tin; Housing Material: Polyester; Min Operating Temperature: -67°C; Max Operating Temperature: 221°C; Packaging: Box; Number of Rows: 1; Termination: Solder; ComponentLink1URL: https://datasheet.ciiva.com/30105/18514ddetro; ComponentLink1Description: https://datasheet.ciiva.com/30105/18514ddetro; Package Quantity: 2000; Series: MTA-100; Contact Type: Male Pin; Contact Mating Length: 7.49mm; RoHS Compliant: Yes; Contact Gender: Male; Current Rating: 5A; Voltage Rating: 250V; Number of Contacts: 5; REACH SVHC: No SVHC; Lead Free: Lead Free; ComponentLink2URL: https://datasheet.ciiva.com/16401/eng-ds-8205; ComponentLink2Description: https://datasheet.ciiva.com/16401/eng-ds-8205; ComponentLink3URL: https://datasheet.ciiva.com/27049/613966-2704; ComponentLink3Description: https://datasheet.ciiva.com/27049/613966-2704; ComponentLink4URL: https://datasheet.ciiva.com/11746/0900766b80e; ComponentLink4Description: https://datasheet.ciiva.com/11746/0900766b80e; Flammability Rating: UL94 V-0; Orientation: Straight; Length: 0.6inch; Depth: 5.72mm; ComponentLink5URL: https://datasheet.ciiva.com/25617/0900766b800; ComponentLink5Description: https://datasheet.ciiva.com/25617/0900766b800; ComponentLink6URL: https://datasheet.ciiva.com/709/eng-cd-640456; ComponentLink6Description: https://datasheet.ciiva.com/709/eng-cd-640456; Housing Color: Natural; Contact Shape: Square; Fastening Type: Friction; Max Voltage Rating (AC): 250V; Voltage Rating (AC): 250V; Contact Retention: No (Without); Mating Alignment: No (Without); Mating Retention: No (Without); PCB Mount Alignment: No (Without); Sealable: No (Without); Strain Relief: No (Without); Shrouded: No (Without); Contact Current Rating: 5A; Panel Mount Retention: No (Without); Mounting Ears: No (Without); Number of Poles: 5; Working Voltage: 250V; Height: 7.87mm; Lead Pitch: 2.54mm; Radiation Hardening: No; ELV: Compliant; ComponentLink7URL: https://datasheet.ciiva.com/14156/04384301-14; ComponentLink7Description: https://datasheet.ciiva.com/14156/04384301-14
footprint TE_640456-5
pins: 1, 2, 3, 4, 5

## dd-0001
designator U?, comment SP485EEN-L/TR-ND
IC TXRX RS485 HALF DUPLEX 8SOIC; BOM_Manufacturer: EXAR; Part Name: dd-0001; Package Display: No; Data Rate: 10Mbps; Nominal Supply Current: 900uA; Max Power Dissipation: 550mW; Operating Supply Voltage: 5V; Number of Receivers: 1; Min Supply Voltage: 4.75V; Max Supply Voltage: 5.25V; Logic Function: Transceiver; Interface: RS-422,RS-485; BOM_Supplier: LCSC; BOM_Manufacturer Part: SP485EEN-L/TR; BOM_Supplier Part: C6855; BOM_JLCPCB Part Class: Basic Part; spicePre: U; spiceSymbolName: SP485EEN-L/TR; LCSC Part Number: C6855; Supplier 1: Digi-Key; Supplier Part Number 1: SP485EEN-L/TR-ND; Manufacturer: Exar; Manufacturer Part Number: SP485EEN-L/TR; RoHS: Yes; Category: Interface ICs; Mount: Surface Mount; Case/Package: SOIC; Number of Pins: 8; Min Operating Temperature: -40°C; Max Operating Temperature: 85°C; Packaging: Tape and Reel; Simplex/Duplex: Half Duplex; Package Quantity: 2500; Number of Transmitters: 1; Number of Drivers: 1; Number of Transceivers: 1; Length: 4.9mm; Width: 3.9mm; Height: 1.65mm; Radiation Hardening: No; RoHS Compliant: Yes; Lead Free: Lead Free; ComponentLink1URL: https://datasheet.ciiva.com/16991/0900766b80d; ComponentLink1Description: https://datasheet.ciiva.com/16991/0900766b80d; ComponentLink2URL: https://datasheet.ciiva.com/6633/sp481e-485e-; ComponentLink2Description: https://datasheet.ciiva.com/6633/sp481e-485e-; ComponentLink3URL: https://datasheet.ciiva.com/6633/sp481e-485e-; ComponentLink3Description: https://datasheet.ciiva.com/6633/sp481e-485e-; ComponentLink4URL: https://datasheet.ciiva.com/6633/sp481e-485e-; ComponentLink4Description: https://datasheet.ciiva.com/6633/sp481e-485e-; ComponentLink5URL: https://datasheet.ciiva.com/16378/sp485een-l-; ComponentLink5Description: https://datasheet.ciiva.com/16378/sp485een-l-
footprint NSOIC-8
pins: 1 RO, 2 RE#, 3 DE, 4 DI, 5 GND, 6 A, 7 B, 8 VCC

## Diode-0002
designator D?, comment B5819W-TP
DIODE SCHOTTKY 40V 1A SOD323; Manufacturer: MCC; Manufacturer Part Number: B5819W TP; Forward Current: 25mA; Forward Voltage: 600mV @ 1A; Color: Blue; Dominant Wavelength: 470nm; Lens Style: Diffused,Colorless,Rectangular,Clear; Luminous Intensity: 28.5mcd; Number of Elements: 1; Power Dissipation: 110W; Reverse Voltage: 5V; Test Current: 20mA; Viewing Angle: 120°; Datasheet Version: Rev. B, 01/2013; Max Operating Temperature: 85°C; RoHS Compliant: Yes; Min Operating Temperature: -40°C; Manufacturer URL: http://www.mccsemi.com/; Package URL: http://www.mccsemi.com/up_pdf/1N4448W(SOD-123).pdf; Case/Package: sod123; Mounting Technology: SM; Datasheet URL: http://www.mccsemi.com/up_pdf/B5817W-B5819W(SOD-123).pdf; Package Description: 2-Pin Small Outline Diode, Body 2.7 x 1.6 mm, Height 1.35 mm; Package Reference: SOD123; Component Type: Diodes; Part Name: Diode-0002; Supplier 1: Digi-Key; Supplier Part Number 1: 5819W-TPMSTR-ND; RoHS: Yes; Category: Rectifier Diodes; Stock 1: 237825; Pricing 1: 1=0.47000, 10=0.35200, 100=0.19930, 500=0.132; Mount: Surface Mount; Case Code (Imperial): sod123; Packaging: Tape and Reel; Max Reverse Voltage (DC): 40V; Average Rectified Current: 1A; ComponentLink1URL: https://datasheet.ciiva.com/16302/19-217-bhc-; ComponentLink1Description: https://datasheet.ciiva.com/16302/19-217-bhc-; ComponentLink2URL: https://datasheet.ciiva.com/26901/getdatashee; ComponentLink2Description: https://datasheet.ciiva.com/26901/getdatashee; Radiation Hardening: No; Lead Free: Lead Free; Depth: 0.8mm; LCSC Part Number: C84354; Length: 1.6mm; Number of LEDs: 1
footprint MCC-SOD123_V
pins: 1 A, 2 K

## Diode-0003
designator DS?, comment LTST-C193TBKT-5A
LED Blue CLEAR 0603 SMD; Manufacturer: Vishay Lite-On; Manufacturer: Rohm; Viewing Angle: 130°; Forward Voltage: 2.8V; Forward (Drive) Current: 20mA; Intensity: 22mcd; Lens Style: Diffused,Colorless,Rectangular,Clear; Luminous Intensity: 15mcd; Dominant Wavelength: 475nm; Number of Elements: 1; Power Dissipation: 76mW; Test Current: 5mA; Reverse Voltage: 5V; Lens Color: Colorless; Lens Type: Clear; Datasheet Version: Rev. 2.0, 03/2010; Package Description: 2-Pin Surface Mount Device, Body 1.6 x 0.8 mm; Mounting Technology: SurfaceMount; Dimension: 1.6x0.8x0.36mm; Package Reference: 1608; Datasheet URL: https://datasheet.ciiva.com/11773/0900766b80df3ad8-11773825.pdf; Color: Blue; Manufacturer URL: http://www.rohm.com/web/global/; Manufacturer Part Number: LTST-C193TBKT-5A; Part Name: Diode-0003; Supplier 1: Digi-Key; Supplier Part Number 1: 160-1827-1-ND; RoHS: Yes; Category: LEDs; Stock 1: 654851; Pricing 1: 1=0.30000, 10=0.23400, 100=0.10510, 500=0.094; Mount: Surface Mount; Case/Package: 0603; Case Code (Imperial): 0603; Case Code (Metric): 1608; Packaging: Tape and Reel; RoHS Compliant: Yes; ComponentLink1URL: https://datasheet.ciiva.com/2111/ltst-c193tbk; ComponentLink1Description: https://datasheet.ciiva.com/2111/ltst-c193tbk; ComponentLink2URL: https://datasheet.ciiva.com/11773/0900766b80d; ComponentLink2Description: https://datasheet.ciiva.com/11773/0900766b80d; ComponentLink3URL: https://datasheet.ciiva.com/4688/lite-on-ltst; ComponentLink3Description: https://datasheet.ciiva.com/4688/lite-on-ltst; Number of Pins: 2; Min Operating Temperature: -20°C; Max Operating Temperature: 80°C; Package Quantity: 1; Radiation Hardening: No; Lead Free: Lead Free; ComponentLink4URL: https://datasheet.ciiva.com/16210/ltst-c193tb; ComponentLink4Description: https://datasheet.ciiva.com/16210/ltst-c193tb; ComponentLink5URL: https://datasheet.ciiva.com/15201/getdatashee; ComponentLink5Description: https://datasheet.ciiva.com/15201/getdatashee; ComponentLink6URL: https://datasheet.ciiva.com/2111/p-100-ltst-c; ComponentLink6Description: https://datasheet.ciiva.com/2111/p-100-ltst-c; ComponentLink7URL: https://datasheet.ciiva.com/2111/p-100-ltst-c; ComponentLink7Description: https://datasheet.ciiva.com/2111/p-100-ltst-c; LCSC Part Number: C72041; Forward Current: 20mA; Number of LEDs: 1; Length: 1.6mm; Depth: 0.8mm; Illumination Color: Blue; Lens Transparency: Clear; Width: 0.8mm; Height: 0.35mm
footprint LED-BLUE_0603
pins: 1 A, 2 K

## Diode-0004
designator DS?, comment LTST-C193KFKT-5A
LED Orange CLEAR 0603 SMD; Manufacturer: Vishay Lite-On; Manufacturer: Rohm; Viewing Angle: 130°; Forward Voltage: 2.0V; Forward (Drive) Current: 20mA; Intensity: 22mcd; Lens Style: Diffused,Colorless,Rectangular,Clear; Forward Current: 5mA; Luminous Intensity: 28.1mcd; Dominant Wavelength: 605nm; Number of Elements: 1; Lens Color: Colorless; Lens Type: Clear; Datasheet Version: Rev. 2.0, 03/2010; Package Description: 2-Pin Surface Mount Device, Body 1.6 x 0.8 mm; Mounting Technology: SurfaceMount; Dimension: 1.6x0.8x0.36mm; Package Reference: 1608; Datasheet URL: https://datasheet.ciiva.com/11773/0900766b80df3ad8-11773825.pdf; Color: Orange; Manufacturer URL: http://www.rohm.com/web/global/; Manufacturer Part Number: LTST-C193KFKT-5A; Part Name: Diode-0004; Supplier 1: Digi-Key; Supplier Part Number 1: 160-1829-1-ND; RoHS: Yes; Category: LEDs; Stock 1: 55639; Pricing 1: 1=0.39000, 10=0.20900, 100=0.09720, 500=0.089; Mount: Surface Mount; Case/Package: 0603; Case Code (Imperial): 0603; Case Code (Metric): 1608; Packaging: Tape and Reel; RoHS Compliant: Yes; Number of Pins: 2; Min Operating Temperature: -55°C; Max Operating Temperature: 85°C; Radiation Hardening: No; Lead Free: Lead Free; LCSC Part Number: C434425; Illumination Color: Orange; Lens Transparency: Clear; Width: 0.8mm; Height: 0.35mm
footprint ROHM-SMLE12BC7TT86_V (SMD, 2-Leads, Body 1.6x0.8mm)
footprint LED-ORANGE_0603
pins: 1 A, 2 K

## Diode-0005
designator DS?, comment LTST-C193KRKT-5A
LED RED CLEAR 0603 SMD; Manufacturer: Vishay Lite-On; Manufacturer: Broadcom Avago; Type: Uni-Color; Product Height (mm): 1.1mm; Power Dissipation: 50mW; Product Length (mm): 3.2mm; Forward Voltage: 2.0V; Luminous Intensity: 45mcd; DELETED: Compliant; Shape Type: Rectangular; Peak Wavelength: 660nm; Main Category: ChipLED; Dominant Wave Length: 639nm; Rad Hardened: No; Lens Type: ColorlessDiffused; Product Depth (mm): 1.6mm; Reverse Voltage: 5V; Forward Current: 5mA; Chip Material: GaAlAs; Test Current (It): 20mA; Lum Intensity: 17mcd; Viewing Angle: 130°; Number of  Elements: 1; Lens Style: Diffused,Colorless,Clear,Rectangular; Dominant Wavelength: 631nm; Lens Color: Colorless; Package Reference: HSMX-C150; Package Description: 2-Pin Surface Mount Device, Body 3.2 x 1.6 mm; Operating Temp Range: -40Cto85C; Mounting: SurfaceMount; Emitting Color: Red; Pin Count: 2; Operating Temperature Classification: Industrial; Datasheet URL: http://media.digikey.com/pdf/Data%20Sheets/Avago%20PDFs/HSMz-Czzz.pdf; Package Type: ChipLed; Mounting Technology: SurfaceMount; High Brightness: No; Lens Dimensions: 2x1.6x0.6mm; Manufacturer URL: http://www.avagotech.com/; Datasheet Version: 03/2012; Packaging: Tape and Reel; Manufacturer Part Number: LTST-C193KRKT-5A; Part Name: Diode-0005; Supplier 1: Digi-Key; Supplier Part Number 1: 160-1830-1-ND; RoHS: Yes; Category: LEDs; Stock 1: 476214; Pricing 1: 1=0.39000, 10=0.20900, 100=0.09720, 500=0.089; Mount: Surface Mount; Case/Package: 0603; Case Code (Imperial): 0603; Case Code (Metric): 1608; RoHS Compliant: Yes; ComponentLink1URL: https://datasheet.ciiva.com/11775/0900766b80d; ComponentLink1Description: https://datasheet.ciiva.com/11775/0900766b80d; ComponentLink2URL: https://datasheet.ciiva.com/4689/100-ltst-c19; ComponentLink2Description: https://datasheet.ciiva.com/4689/100-ltst-c19; ComponentLink3URL: https://datasheet.ciiva.com/16210/ltst-c193kr; ComponentLink3Description: https://datasheet.ciiva.com/16210/ltst-c193kr; Number of Pins: 2; Min Operating Temperature: -55°C; Max Operating Temperature: 85°C; Package Quantity: 3000; Series: -; Radiation Hardening: No; Lead Free: Lead Free; ComponentLink4URL: https://datasheet.ciiva.com/2110/s-110-ltst-c; ComponentLink4Description: https://datasheet.ciiva.com/2110/s-110-ltst-c; LCSC Part Number: C2286; Color: Red; Number of Elements: 1; Test Current: 5mA; Number of LEDs: 1; Length: 1.6mm; Depth: 0.8mm; Illumination Color: Red; Lens Transparency: Clear; Width: 0.8mm; Height: 0.35mm
footprint AVAG-HSMX-C150_V (SMD, 2-Leads, Body 3.2x1.6mm)
footprint LED-RED_0603
pins: 1 A, 2 K

## Diode-0006
designator DS?, comment LTST-C193KSKT-5A
LED Yellow CLEAR 0603 SMD; Manufacturer: Vishay Lite-On; Voltage Rating: 50 V; Power Rating: 75mW; Case\Package: 0603; Resistance: 390 Ohm; Forward Voltage: 2.0V; Lens Style: Diffused,Colorless,Rectangular; Viewing Angle: 130°; Forward Current: 30mA; Luminous Intensity: 45mcd; Dominant Wavelength: 594.5nm; Number of Elements: 1; Test Current: 5mA; Reverse Voltage: 5V; Lens Color: Colorless; Min Operating Temperature: -55°C; Length: 1.6mm; ComponentLink3Description: https://datasheet.ciiva.com/26890/getdatashee; Mount: Surface Mount; PackageReference: HSMX-C190; ComponentLink2Description: https://datasheet.ciiva.com/4688/lite-on-ltst; DatasheetVersion: Mar-12; Case Code (Metric): 1608; Pins: 2; Package Quantity: 1; ComponentLink2URL: https://datasheet.ciiva.com/4688/lite-on-ltst; ComponentLink1Description: https://datasheet.ciiva.com/11775/0900766b80d; RoHSCompliant: true; Packaging: Tape and Reel; PackageDescription: 2-Pin Surface Mount Device, Body 1.6 x 0.8 mm, Height 0.9 mm; ComponentLink3URL: https://datasheet.ciiva.com/26890/getdatashee; Width: 0.8mm; ComponentLink1URL: https://datasheet.ciiva.com/11775/0900766b80d; Max Operating Temperature: 85°C; Case Code (Imperial): 0603; Height: 0.35mm; Manufacturer Part Number: LTST-C193KSKT-5A; Part Name: Diode-0006; Supplier 1: Digi-Key; Supplier Part Number 1: 160-1831-1-ND; RoHS: Yes; Category: LEDs; Stock 1: 147319; Pricing 1: 1=0.39000, 10=0.20900, 100=0.09720, 500=0.089; Case/Package: 0603; RoHS Compliant: Yes; Number of Pins: 2; Radiation Hardening: No; Lead Free: Lead Free; ComponentLink4URL: https://datasheet.ciiva.com/2110/s-110-ltst-c; ComponentLink4Description: https://datasheet.ciiva.com/2110/s-110-ltst-c; ComponentLink5URL: https://datasheet.ciiva.com/2110/s-110-ltst-c; ComponentLink5Description: https://datasheet.ciiva.com/2110/s-110-ltst-c; ComponentLink6URL: https://datasheet.ciiva.com/2110/s-110-ltst-c; ComponentLink6Description: https://datasheet.ciiva.com/2110/s-110-ltst-c; ComponentLink7URL: https://datasheet.ciiva.com/2110/ltst-c193kfk; ComponentLink7Description: https://datasheet.ciiva.com/2110/ltst-c193kfk; LCSC Part Number: C72038; Color: Yellow; Power Dissipation: 75mW; Number of LEDs: 1; Depth: 0.8mm; Illumination Color: Yellow; Lens Transparency: Clear
footprint AVAG-HSMX-C190_V (SMD, 2-Leads, Body 1.6x0.8mm, Height 0.9mm)
footprint LED-YELLOW_0603
pins: 1 A, 2 K

## Diode-0007
designator DS?, comment LTST-C193TGKT-5A
LED Green CLEAR 0603 SMD; Manufacturer: Vishay Lite-On; Frequency: 400 KHz; Max Supply Voltage: 5.5 V; Access Time: 3500 ns; Clock Frequency: 100 KHz; Case\Package: SOIC; Density: 32 kb; Nominal Supply Current: 2 mA; Min Supply Voltage: 1.7 V; Max Reverse Voltage (DC): 40V; Average Rectified Current: 2A; Forward Voltage: 2.0V; Element Configuration: Single; Peak Non-Repetitive Surge Current: 50A; Lens Style: Diffused,Colorless,Rectangular; Viewing Angle: 130°; Forward Current: 5mA; Luminous Intensity: 280mcd; Dominant Wavelength: 535nm; Number of Elements: 1; Power Dissipation: 76mW; Reverse Voltage: 5V; Lens Color: Colorless; Max Reverse Current: 500uA; Packaging: Tape and Reel; PackageReference: HSMX-C190; ComponentLink2URL: https://datasheet.ciiva.com/11775/0900766b80d; RoHSCompliant: true; Pins: 8; Max Operating Temperature: 80°C; Width: 0.8mm; Radiation Hardening: No; Package Quantity: 3000; ComponentLink3Description: https://datasheet.ciiva.com/4689/lite-on-ltst; ComponentLink1Description: https://datasheet.ciiva.com/2111/ltst-c193tgk; Min Operating Temperature: -20°C; PackageDescription: 2-Pin Surface Mount Device, Body 1.6 x 0.8 mm, Height 0.9 mm; Max Clock Frequency: 100 KHz; Height: 0.35mm; ComponentLink1URL: https://datasheet.ciiva.com/2111/ltst-c193tgk; DatasheetVersion: Mar-12; ComponentLink2Description: https://datasheet.ciiva.com/11775/0900766b80d; Mount: Surface Mount; Length: 1.6mm; ComponentLink3URL: https://datasheet.ciiva.com/4689/lite-on-ltst; Manufacturer Part Number: LTST-C193TGKT-5A; Part Name: Diode-0007; Supplier 1: Digi-Key; Supplier Part Number 1: 160-1832-1-ND; RoHS: Yes; Category: LEDs; Stock 1: 429188; Pricing 1: 1=0.45000, 10=0.27400, 100=0.15780, 1000=0.12; Case/Package: 0603; Case Code (Imperial): 0603; Case Code (Metric): 1608; RoHS Compliant: Yes; Number of Pins: 2; Series: -; Lead Free: Lead Free; ComponentLink4URL: https://datasheet.ciiva.com/2111/p-100-ltst-c; ComponentLink4Description: https://datasheet.ciiva.com/2111/p-100-ltst-c; ComponentLink5URL: https://datasheet.ciiva.com/2111/p-100-ltst-c; ComponentLink5Description: https://datasheet.ciiva.com/2111/p-100-ltst-c; ComponentLink6URL: http://www.mouser.com/ds/2/115/B220AQ_Q-B260A; ComponentLink6Description: http://www.mouser.com/ds/2/115/B220AQ_Q-B260A; ComponentLink7URL: https://www.diodes.com/assets/Datasheets/ds13; ComponentLink7Description: https://www.diodes.com/assets/Datasheets/ds13; ComponentLink8URL: http://www.diodes.com/datasheets/ds13004.pdf?; ComponentLink8Description: http://www.diodes.com/datasheets/ds13004.pdf?; LCSC Part Number: C72043; Color: Green; Test Current: 5mA; Number of LEDs: 1; Depth: 0.8mm; Illumination Color: Green; Lens Transparency: Clear; Contact Plating: Tin,Matte; Max Repetitive Reverse Voltage (Vrrm): 40V
footprint AVAG-HSMX-C190_V (SMD, 2-Leads, Body 1.6x0.8mm, Height 0.9mm)
footprint LED-GREEN_0603
pins: 1 A, 2 K

## Diode-0008
designator D?, comment B240Q-13-F
Rectifier Diode Schottky 40V 2A Automotive 2-Pin SMB T/R; Manufacturer: Diodes; Manufacturer: MCC; Forward Current: 200mA; Forward Voltage: 800mV; Max Reverse Voltage (DC): 30V; Peak Non-Repetitive Surge Current: 600mA; Power Dissipation: 200mW; Max Reverse Current: 2uA; Capacitance: 10pF; Reverse Recovery Time: 5ns; Datasheet Version: Rev. B, 01/2013; Max Operating Temperature: 150°C; RoHS Compliant: Yes; Min Operating Temperature: -65°C; Manufacturer URL: http://www.mccsemi.com/; Package URL: http://www.mccsemi.com/up_pdf/1N4448W(SOD-123).pdf; Case/Package: SMB; Mounting Technology: SM; Datasheet URL: http://www.mccsemi.com/up_pdf/B5817W-B5819W(SOD-123).pdf; Package Description: 2-Pin Small Outline Diode, Body 2.7 x 1.6 mm, Height 1.35 mm; Package Reference: SOD123; Manufacturer Part Number: B240Q-13-F; Component Type: Diodes; Part Name: Diode-0008; Supplier 1: Digi-Key; Supplier Part Number 1: B240Q-13-FDICT-ND; RoHS: Yes; Category: Rectifier Diodes; Stock 1: 9228; Pricing 1: 1=0.40000, 10=0.32600, 100=0.22180, 500=0.166; Mount: Surface Mount; Packaging: Tape and Reel; Average Rectified Current: 200mA; ComponentLink1URL: https://datasheet.ciiva.com/34302/1539235-343; ComponentLink1Description: https://datasheet.ciiva.com/34302/1539235-343; ComponentLink2URL: https://datasheet.ciiva.com/22695/1911820-226; ComponentLink2Description: https://datasheet.ciiva.com/22695/1911820-226; ComponentLink3URL: https://datasheet.ciiva.com/15144/getdatashee; ComponentLink3Description: https://datasheet.ciiva.com/15144/getdatashee; Number of Pins: 2; Package Quantity: 3000; Series: -; Radiation Hardening: No; Lead Free: Lead Free; LCSC Part Number: C460673; Length: 2.9mm; Width: 1.3mm; Height: 1mm; Power Rating: 200mW; Contact Plating: Tin,Matte; Max Repetitive Reverse Voltage (Vrrm): 30V; Current Rating: 200mA; Max Forward Surge Current (Ifsm): 600mA; Max Power Dissipation: 200mW; REACH SVHC: No SVHC; Termination: SMD/SMT; Voltage Rating (DC): 30V; Weight: 0.000282oz
footprint DIODE_DO214AA
pins: 1 A, 2 K

## Diode-0009
designator D?, comment BAT54S
DIODE SCHOTTKY 30V 150MA SOT23-3; Manufacturer: Sangdest Microelectronics; Manufacturer: ON Semiconductor / Fairchild; Recovery Time: 5ns; Package Version: Rev. 12, 03/2016; Peak Reverse Current: 2uA; Elements: 2; Package Reference: SOT23-3; Package URL: http://www.fairchildsemi.com/dwg/MA/MA03D.pdf; Pins: 3; Datasheet URL: https://www.fairchildsemi.com/datasheets/BA/BAT54S.pdf; Manufacturer URL: https://www.fairchildsemi.com/; Datasheet Version: Rev. 2.3, 04/2016; Mounting Technology: SM; Package Description: 3-Pin Small Outline Transistor, Body 2.92 x 1.325 mm, Pitch 0.95 mm; Manufacturer Part Number: BAT54S; Component Type: Diodes; Part Name: Diode-0009; Supplier 1: Digi-Key; Supplier Part Number 1: 1655-BAT54SCT-ND; RoHS: Yes; Stock 1: 168252; Pricing 1: 1=0.43000, 10=0.35100, 100=0.18620, 500=0.122; Mount: Surface Mount; Radiation Hardening: No; Lead Free: Lead Free; LCSC Part Number: C47546
footprint FAIR-SOT23-3_V (SOT23, 3-Leads, Body 3.12x1.5mm, Pitch 0.95mm)
footprint sot23-3
pins: 1 A, 2 K, 3 C